# Altium integrated library Altera FPGA.IntLib: 467 symbols (part 3 of 3)
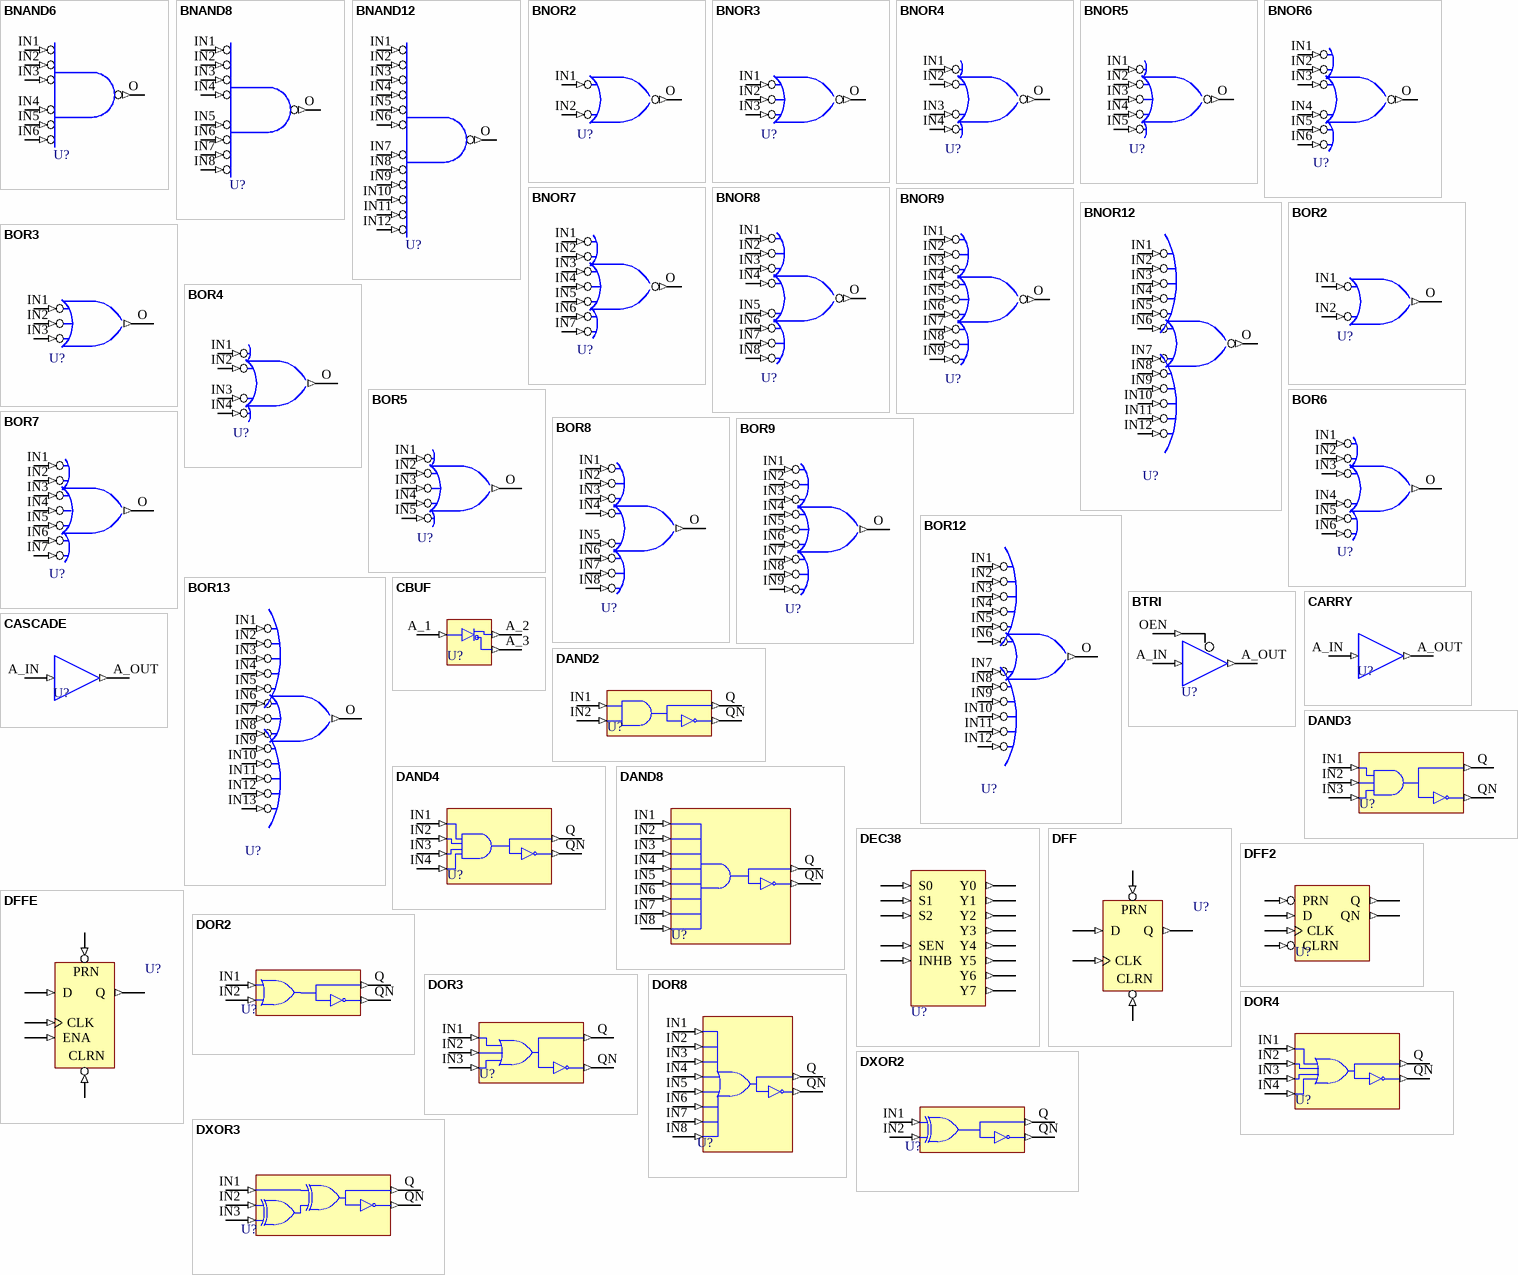
[diagram p14: symbols BNAND6 to DXOR3]

## DAND4
designator U?
4-Input AND Gate with additional inverted output.; FPGAVendor: Altera; Published: 17-Apr-2002; Publisher: Altium Limited
pins: IN1 (in), IN2 (in), IN3 (in), IN4 (in), Q (out), QN (out)

## DAND8
designator U?
8-Input AND Gate with additional inverted output.; FPGAVendor: Altera; Published: 17-Apr-2002; Publisher: Altium Limited
pins: IN1 (in), IN2 (in), IN3 (in), IN4 (in), IN5 (in), IN6 (in), IN7 (in), IN8 (in), Q (out), QN (out)

## DEC38
designator U?
3:8 DECODER; FPGAVendor: Altera; Published: 17-Apr-2002; Publisher: Altium Limited
pins: INHB (in), S0 (in), S1 (in), S2 (in), SEN (in), Y0 (out), Y1 (out), Y2 (out), Y3 (out), Y4 (out), Y5 (out), Y6 (out), Y7 (out)

## DFF
designator U?
D Flip-Flop; FPGAVendor: Altera; Published: 17-Apr-2002; Publisher: Altium Limited
pins: CLK (in), CLRN (in), D (in), PRN (in), Q (out)

## DFF2
designator U?
D Flip-Flop; FPGAVendor: Altera; Published: 17-Apr-2002; Publisher: Altium Limited
pins: CLK (in), CLRN (in), D (in), PRN (in), Q (out), QN (out)

## DFFE
designator U?
D Flip-Flop with Enable; FPGAVendor: Altera; Published: 17-Apr-2002; Publisher: Altium Limited
pins: CLK (in), CLRN (in), D (in), ENA (in), PRN (in), Q (out)

## DOR2
designator U?
2-Input OR Gate with additional inverted output.; FPGAVendor: Altera; Published: 17-Apr-2002; Publisher: Altium Limited
pins: IN1 (in), IN2 (in), Q (out), QN (out)

## DOR3
designator U?
3-Input OR Gate with additional inverted output.; FPGAVendor: Altera; Published: 17-Apr-2002; Publisher: Altium Limited
pins: IN1 (in), IN2 (in), IN3 (in), Q (out), QN (out)

## DOR4
designator U?
4-Input OR Gate with additional inverted output.; FPGAVendor: Altera; Published: 17-Apr-2002; Publisher: Altium Limited
pins: IN1 (in), IN2 (in), IN3 (in), IN4 (in), Q (out), QN (out)

## DOR8
designator U?
8-Input OR Gate with additional inverted output.; FPGAVendor: Altera; Published: 17-Apr-2002; Publisher: Altium Limited
pins: IN1 (in), IN2 (in), IN3 (in), IN4 (in), IN5 (in), IN6 (in), IN7 (in), IN8 (in), Q (out), QN (out)

## DXOR2
designator U?
2-Input XOR Gate with additional inverted output.; FPGAVendor: Altera; Published: 17-Apr-2002; Publisher: Altium Limited
pins: IN1 (in), IN2 (in), Q (out), QN (out)

## DXOR3
designator U?
3-Input XOR Gate with additional inverted output.; FPGAVendor: Altera; Published: 17-Apr-2002; Publisher: Altium Limited
pins: IN1 (in), IN2 (in), IN3 (in), Q (out), QN (out)

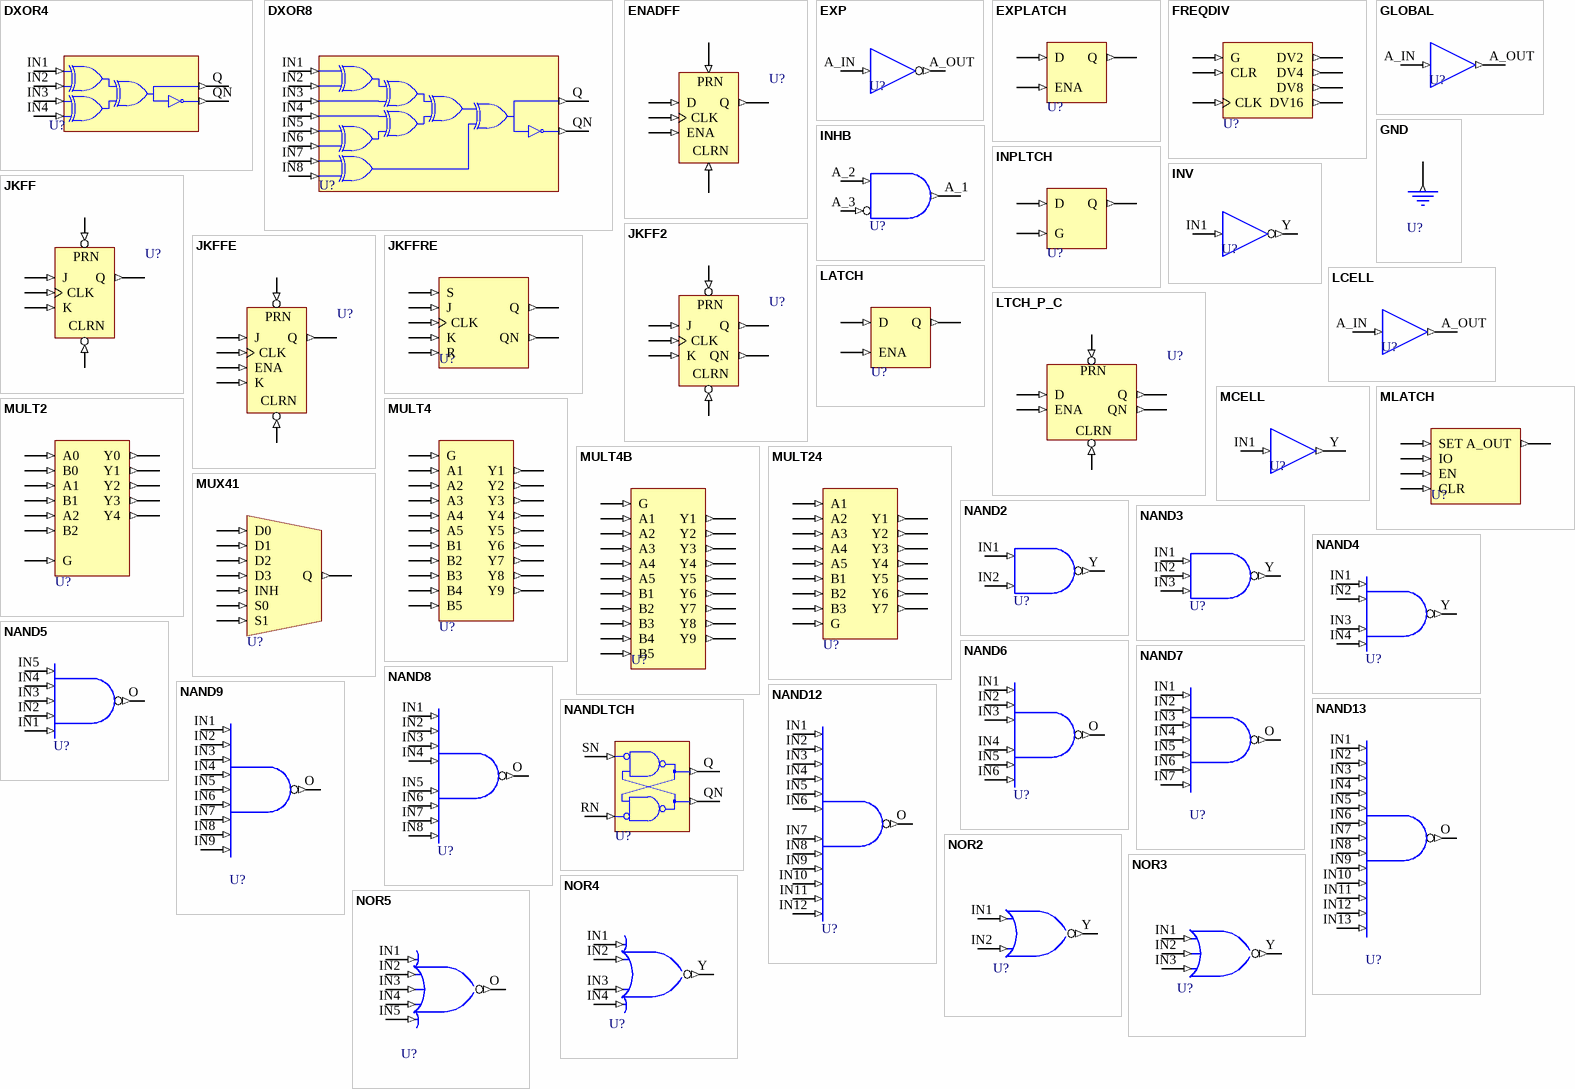
[diagram p10: symbols DXOR4 to NOR5]

## DXOR4
designator U?
4-Input XOR Gate with additional inverted output.; FPGAVendor: Altera; Published: 17-Apr-2002; Publisher: Altium Limited
pins: IN1 (in), IN2 (in), IN3 (in), IN4 (in), Q (out), QN (out)

## DXOR8
designator U?
8-Input XOR Gate with additional inverted output.; FPGAVendor: Altera; Published: 17-Apr-2002; Publisher: Altium Limited
pins: IN1 (in), IN2 (in), IN3 (in), IN4 (in), IN5 (in), IN6 (in), IN7 (in), IN8 (in), Q (out), QN (out)

## ENADFF
designator U?
Enabled D-Type Flip-Flop; FPGAVendor: Altera; Published: 17-Apr-2002; Publisher: Altium Limited
pins: CLK (in), CLRN (in), D (in), ENA (in), PRN (in), Q (out)

## EXP
designator U?
Inverter; FPGAVendor: Altera; Published: 17-Apr-2002; Publisher: Altium Limited
pins: A_IN (in), A_OUT (out)

## EXPLATCH
designator U?
Latch Implemented with Expanders; FPGAVendor: Altera; Published: 17-Apr-2002; Publisher: Altium Limited
pins: D (in), ENA (in), Q (out)

## FREQDIV
designator U?
Frequency Divider; FPGAVendor: Altera; Published: 17-Apr-2002; Publisher: Altium Limited
pins: CLK (in), CLR (in), DV2 (out), DV4 (out), DV8 (out), DV16 (out), G (in)

## GLOBAL
designator U?
Buffer; FPGAVendor: Altera; Published: 17-Apr-2002; Publisher: Altium Limited
pins: A_IN (in), A_OUT (out)

## GND
designator U?
Power Ground; FPGAVendor: Altera; Published: 17-Apr-2002; Publisher: Altium Limited
pins: Y (out)

## INHB
designator U?
Inhibit Gate; FPGAVendor: Altera; Published: 17-Apr-2002; Publisher: Altium Limited
pins: A_1 (out), A_2 (in), A_3 (in)

## INPLTCH
designator U?
Input Latch Implemented with Expanders; FPGAVendor: Altera; Published: 17-Apr-2002; Publisher: Altium Limited
pins: D (in), G (in), Q (out)

## INV
designator U?
Inverter; FPGAVendor: Altera; Published: 17-Apr-2002; Publisher: Altium Limited
pins: IN1 (in), Y (out)

## JKFF
designator U?
J-K Flip-Flop; FPGAVendor: Altera; Published: 17-Apr-2002; Publisher: Altium Limited
pins: CLK (in), CLRN (in), J (in), K (in), PRN (in), Q (out)

## JKFF2
designator U?
J-K Flip-Flop; FPGAVendor: Altera; Published: 17-Apr-2002; Publisher: Altium Limited
pins: CLK (in), CLRN (in), J (in), K (in), PRN (in), Q (out), QN (out)

## JKFFE
designator U?
J-K Flip-Flop with Enable; FPGAVendor: Altera; Published: 17-Apr-2002; Publisher: Altium Limited
pins: CLK (in), CLRN (in), ENA (in), J (in), K (in), PRN (in), Q (out)

## JKFFRE
designator U?
J-K Flip-Flop; FPGAVendor: Altera; Published: 17-Apr-2002; Publisher: Altium Limited
pins: CLK (in), J (in), K (in), Q (out), QN (out), R (in), S (in)

## LATCH
designator U?
Latch; FPGAVendor: Altera; Published: 17-Apr-2002; Publisher: Altium Limited
pins: D (in), ENA (in), Q (out)

## LCELL
designator U?
Buffer; FPGAVendor: Altera; Published: 17-Apr-2002; Publisher: Altium Limited
pins: A_IN (in), A_OUT (out)

## LTCH_P_C
designator U?
LATCH WITH ASYNC PRE/CLR; FPGAVendor: Altera; Published: 17-Apr-2002; Publisher: Altium Limited
pins: CLRN (in), D (in), ENA (in), PRN (in), Q (out), QN (out)

## MCELL
designator U?
Buffer; FPGAVendor: Altera; Published: 17-Apr-2002; Publisher: Altium Limited
pins: IN1 (in), Y (out)

## MLATCH
designator U?
MENTOR LATCH; FPGAVendor: Altera; Published: 17-Apr-2002; Publisher: Altium Limited
pins: A_OUT (out), CLR (in), EN (in), IO (in), SET (in)

## MULT2
designator U?
2-Bit Sign Magnitude Multiplier; FPGAVendor: Altera; Published: 17-Apr-2002; Publisher: Altium Limited
pins: A0 (in), A1 (in), A2 (in), B0 (in), B1 (in), B2 (in), G (in), Y0 (out), Y1 (out), Y2 (out), Y3 (out), Y4 (out)

## MULT4
designator U?
4-Bit Parallel Binary Multiplier; FPGAVendor: Altera; Published: 17-Apr-2002; Publisher: Altium Limited
pins: A1 (in), A2 (in), A3 (in), A4 (in), A5 (in), B1 (in), B2 (in), B3 (in), B4 (in), B5 (in), G (in), Y1 (out), Y2 (out), Y3 (out), Y4 (out), Y5 (out), Y6 (out), Y7 (out), Y8 (out), Y9 (out)

## MULT4B
designator U?
4-Bit Parallel Binary Multiplier; FPGAVendor: Altera; Published: 17-Apr-2002; Publisher: Altium Limited
pins: A1 (in), A2 (in), A3 (in), A4 (in), A5 (in), B1 (in), B2 (in), B3 (in), B4 (in), B5 (in), G (in), Y1 (out), Y2 (out), Y3 (out), Y4 (out), Y5 (out), Y6 (out), Y7 (out), Y8 (out), Y9 (out)

## MULT24
designator U?
2-Bit-by-4-Bit Parallel Binary Multiplier; FPGAVendor: Altera; Published: 17-Apr-2002; Publisher: Altium Limited
pins: A1 (in), A2 (in), A3 (in), A4 (in), A5 (in), B1 (in), B2 (in), B3 (in), G (in), Y1 (out), Y2 (out), Y3 (out), Y4 (out), Y5 (out), Y6 (out), Y7 (out)

## MUX41
designator U?
4:1 MULTIPLEXOR; FPGAVendor: Altera; Published: 17-Apr-2002; Publisher: Altium Limited
pins: D0 (in), D1 (in), D2 (in), D3 (in), INH (in), Q (out), S0 (in), S1 (in)

## NAND2
designator U?
2-Input NAND Gate; FPGAVendor: Altera; Published: 17-Apr-2002; Publisher: Altium Limited
pins: IN1 (in), IN2 (in), Y (out)

## NAND3
designator U?
3-Input NAND Gate; FPGAVendor: Altera; Published: 17-Apr-2002; Publisher: Altium Limited
pins: IN1 (in), IN2 (in), IN3 (in), Y (out)

## NAND4
designator U?
4-Input NAND Gate; FPGAVendor: Altera; Published: 17-Apr-2002; Publisher: Altium Limited
pins: IN1 (in), IN2 (in), IN3 (in), IN4 (in), Y (out)

## NAND5
designator U?
5-Input NAND Gate; FPGAVendor: Altera; Published: 17-Apr-2002; Publisher: Altium Limited
pins: IN1 (in), IN2 (in), IN3 (in), IN4 (in), IN5 (in), O (out)

## NAND6
designator U?
6-Input NAND Gate; FPGAVendor: Altera; Published: 17-Apr-2002; Publisher: Altium Limited
pins: IN1 (in), IN2 (in), IN3 (in), IN4 (in), IN5 (in), IN6 (in), O (out)

## NAND7
designator U?
7-Input NAND Gate; FPGAVendor: Altera; Published: 17-Apr-2002; Publisher: Altium Limited
pins: IN1 (in), IN2 (in), IN3 (in), IN4 (in), IN5 (in), IN6 (in), IN7 (in), O (out)

## NAND8
designator U?
8-Input NAND Gate; FPGAVendor: Altera; Published: 17-Apr-2002; Publisher: Altium Limited
pins: IN1 (in), IN2 (in), IN3 (in), IN4 (in), IN5 (in), IN6 (in), IN7 (in), IN8 (in), O (out)

## NAND9
designator U?
9-Input NAND Gate; FPGAVendor: Altera; Published: 17-Apr-2002; Publisher: Altium Limited
pins: IN1 (in), IN2 (in), IN3 (in), IN4 (in), IN5 (in), IN6 (in), IN7 (in), IN8 (in), IN9 (in), O (out)

## NAND12
designator U?
12-Input NAND Gate; FPGAVendor: Altera; Published: 17-Apr-2002; Publisher: Altium Limited
pins: IN1 (in), IN2 (in), IN3 (in), IN4 (in), IN5 (in), IN6 (in), IN7 (in), IN8 (in), IN9 (in), IN10 (in), IN11 (in), IN12 (in), O (out)

## NAND13
designator U?
13-Input NAND Gate; FPGAVendor: Altera; Published: 17-Apr-2002; Publisher: Altium Limited
pins: IN1 (in), IN2 (in), IN3 (in), IN4 (in), IN5 (in), IN6 (in), IN7 (in), IN8 (in), IN9 (in), IN10 (in), IN11 (in), IN12 (in), IN13 (in), O (out)

## NANDLTCH
designator U?
S-R NAND Latch Implemented with Expanders; FPGAVendor: Altera; Published: 17-Apr-2002; Publisher: Altium Limited
pins: Q (out), QN (out), RN (in), SN (in)

## NOR2
designator U?
2-Input NOR Gate; FPGAVendor: Altera; Published: 17-Apr-2002; Publisher: Altium Limited
pins: IN1 (in), IN2 (in), Y (out)

## NOR3
designator U?
3-Input NOR Gate; FPGAVendor: Altera; Published: 17-Apr-2002; Publisher: Altium Limited
pins: IN1 (in), IN2 (in), IN3 (in), Y (out)

## NOR4
designator U?
4-Input NOR Gate; FPGAVendor: Altera; Published: 17-Apr-2002; Publisher: Altium Limited
pins: IN1 (in), IN2 (in), IN3 (in), IN4 (in), Y (out)

## NOR5
designator U?
5-Input NOR Gate; FPGAVendor: Altera; Published: 17-Apr-2002; Publisher: Altium Limited
pins: IN1 (in), IN2 (in), IN3 (in), IN4 (in), IN5 (in), O (out)

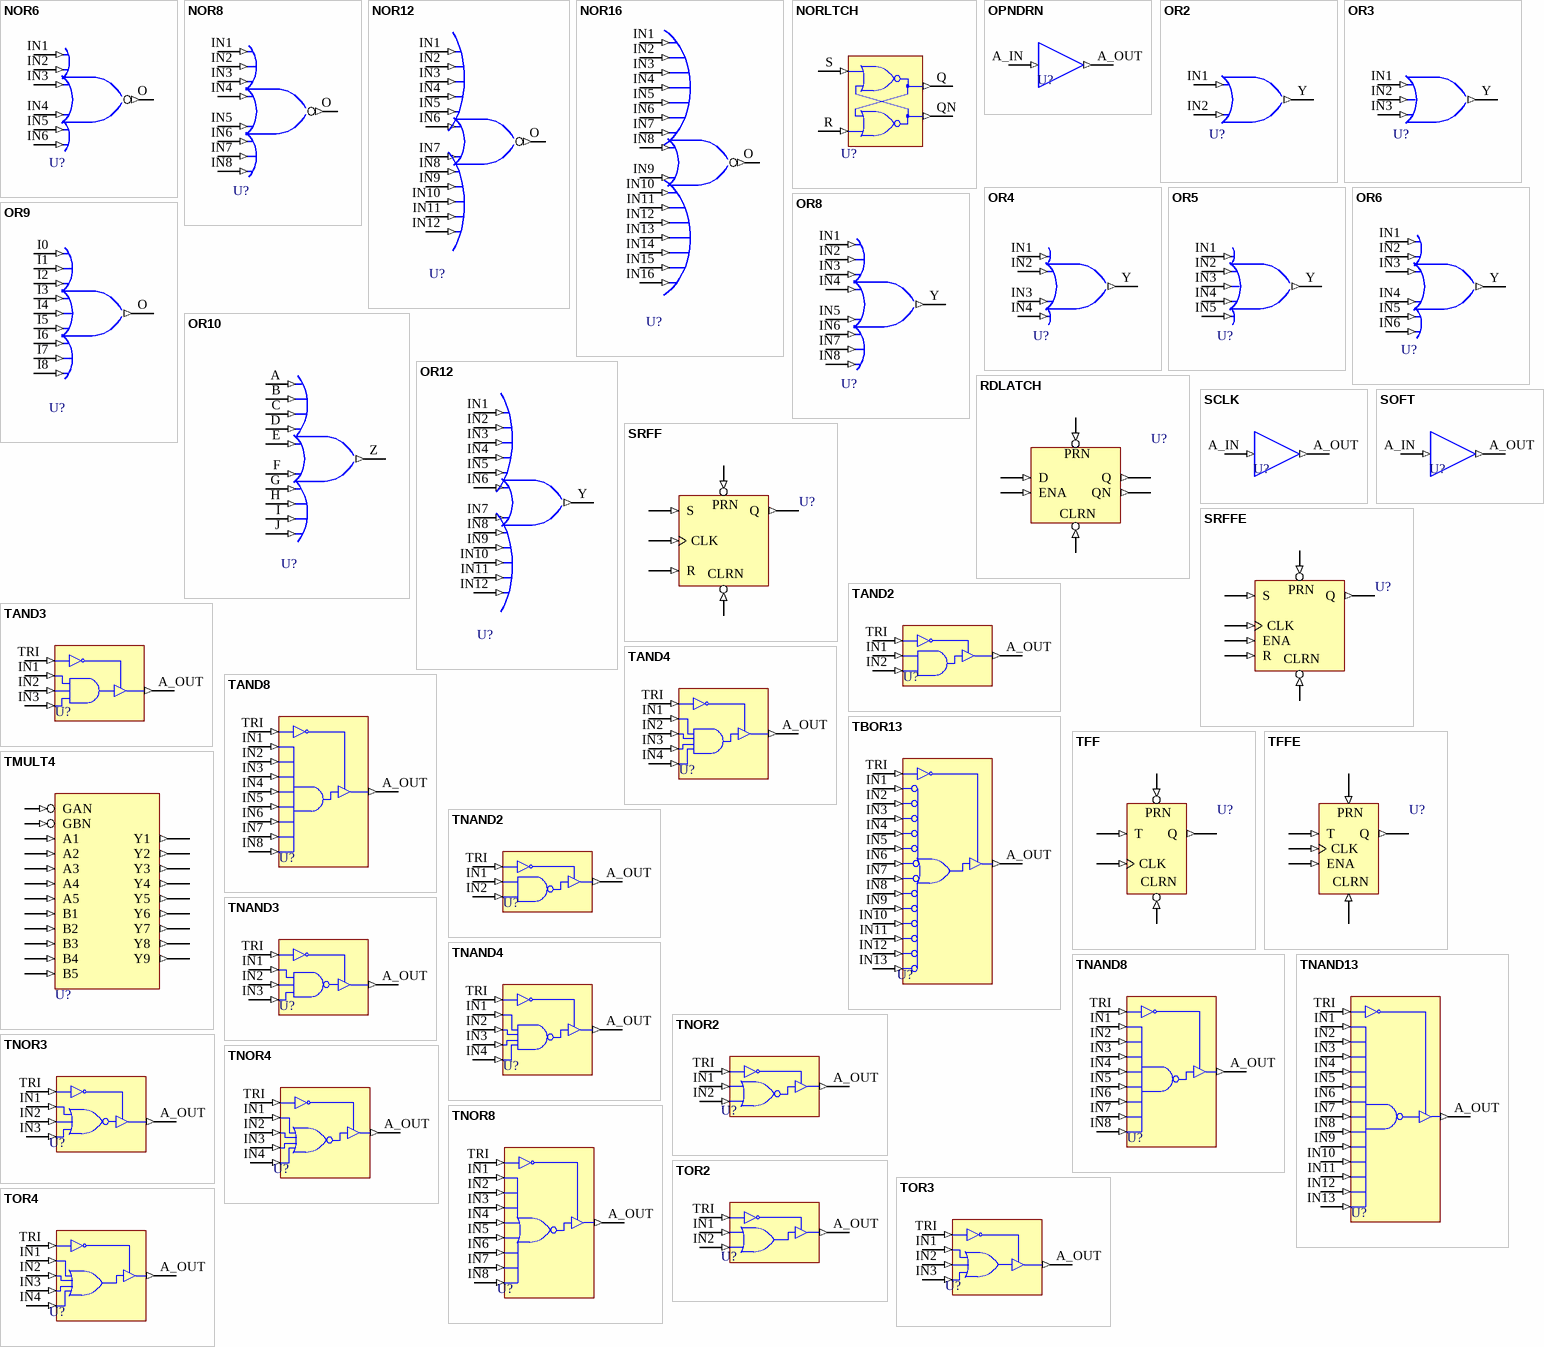
[diagram p11: symbols NOR6 to TOR4]

## NOR6
designator U?
6-Input NOR Gate; FPGAVendor: Altera; Published: 17-Apr-2002; Publisher: Altium Limited
pins: IN1 (in), IN2 (in), IN3 (in), IN4 (in), IN5 (in), IN6 (in), O (out)

## NOR8
designator U?
8-Input NOR Gate; FPGAVendor: Altera; Published: 17-Apr-2002; Publisher: Altium Limited
pins: IN1 (in), IN2 (in), IN3 (in), IN4 (in), IN5 (in), IN6 (in), IN7 (in), IN8 (in), O (out)

## NOR12
designator U?
12-Input NOR Gate; FPGAVendor: Altera; Published: 17-Apr-2002; Publisher: Altium Limited
pins: IN1 (in), IN2 (in), IN3 (in), IN4 (in), IN5 (in), IN6 (in), IN7 (in), IN8 (in), IN9 (in), IN10 (in), IN11 (in), IN12 (in), O (out)

## NOR16
designator U?
16-Input NOR Gate; FPGAVendor: Altera; Published: 17-Apr-2002; Publisher: Altium Limited
pins: IN1 (in), IN2 (in), IN3 (in), IN4 (in), IN5 (in), IN6 (in), IN7 (in), IN8 (in), IN9 (in), IN10 (in), IN11 (in), IN12 (in), IN13 (in), IN14 (in), IN15 (in), IN16 (in), O (out)

## NORLTCH
designator U?
S-R NOR Latch Implemented with Expanders; FPGAVendor: Altera; Published: 17-Apr-2002; Publisher: Altium Limited
pins: Q (out), QN (out), R (in), S (in)

## OPNDRN
designator U?
Buffer; FPGAVendor: Altera; Published: 17-Apr-2002; Publisher: Altium Limited
pins: A_IN (in), A_OUT (out)

## OR2
designator U?
2-Input OR Gate; FPGAVendor: Altera; Published: 17-Apr-2002; Publisher: Altium Limited
pins: IN1 (in), IN2 (in), Y (out)

## OR3
designator U?
3-Input OR Gate; FPGAVendor: Altera; Published: 17-Apr-2002; Publisher: Altium Limited
pins: IN1 (in), IN2 (in), IN3 (in), Y (out)

## OR4
designator U?
4-Input OR Gate; FPGAVendor: Altera; Published: 17-Apr-2002; Publisher: Altium Limited
pins: IN1 (in), IN2 (in), IN3 (in), IN4 (in), Y (out)

## OR5
designator U?
5-Input OR Gate; FPGAVendor: Altera; Published: 17-Apr-2002; Publisher: Altium Limited
pins: IN1 (in), IN2 (in), IN3 (in), IN4 (in), IN5 (in), Y (out)

## OR6
designator U?
6-Input OR Gate; FPGAVendor: Altera; Published: 17-Apr-2002; Publisher: Altium Limited
pins: IN1 (in), IN2 (in), IN3 (in), IN4 (in), IN5 (in), IN6 (in), Y (out)

## OR8
designator U?
8-Input OR Gate; FPGAVendor: Altera; Published: 17-Apr-2002; Publisher: Altium Limited
pins: IN1 (in), IN2 (in), IN3 (in), IN4 (in), IN5 (in), IN6 (in), IN7 (in), IN8 (in), Y (out)

## OR9
designator U?
9-Input OR Gate; FPGAVendor: Altera; Published: 17-Apr-2002; Publisher: Altium Limited
pins: I0 (in), I1 (in), I2 (in), I3 (in), I4 (in), I5 (in), I6 (in), I7 (in), I8 (in), O (out)

## OR10
designator U?
10-Input OR Gate; FPGAVendor: Altera; Published: 17-Apr-2002; Publisher: Altium Limited
pins: A (in), B (in), C (in), D (in), E (in), F (in), G (in), H (in), I (in), J (in), Z (out)

## OR12
designator U?
12-Input OR Gate; FPGAVendor: Altera; Published: 17-Apr-2002; Publisher: Altium Limited
pins: IN1 (in), IN2 (in), IN3 (in), IN4 (in), IN5 (in), IN6 (in), IN7 (in), IN8 (in), IN9 (in), IN10 (in), IN11 (in), IN12 (in), Y (out)

## RDLATCH
designator U?
DAISY LATCH; FPGAVendor: Altera; Published: 17-Apr-2002; Publisher: Altium Limited
pins: CLRN (in), D (in), ENA (in), PRN (in), Q (out), QN (out)

## SCLK
designator U?
Buffer; FPGAVendor: Altera; Published: 17-Apr-2002; Publisher: Altium Limited
pins: A_IN (in), A_OUT (out)

## SOFT
designator U?
Buffer; FPGAVendor: Altera; Published: 17-Apr-2002; Publisher: Altium Limited
pins: A_IN (in), A_OUT (out)

## SRFF
designator U?
S-R (Set-Reset) Flip-Flop; FPGAVendor: Altera; Published: 17-Apr-2002; Publisher: Altium Limited
pins: CLK (in), CLRN (in), PRN (in), Q (out), R (in), S (in)

## SRFFE
designator U?
S-R (Set-Reset) Flip-Flop with Enable; FPGAVendor: Altera; Published: 17-Apr-2002; Publisher: Altium Limited
pins: CLK (in), CLRN (in), ENA (in), PRN (in), Q (out), R (in), S (in)

## TAND2
designator U?
2-Input AND Gate with Tri-State output.; FPGAVendor: Altera; Published: 17-Apr-2002; Publisher: Altium Limited
pins: A_OUT (out), IN1 (in), IN2 (in), TRI (in)

## TAND3
designator U?
3-Input AND Gate with Tri-State output.; FPGAVendor: Altera; Published: 17-Apr-2002; Publisher: Altium Limited
pins: A_OUT (out), IN1 (in), IN2 (in), IN3 (in), TRI (in)

## TAND4
designator U?
4-Input AND Gate with Tri-State output.; FPGAVendor: Altera; Published: 17-Apr-2002; Publisher: Altium Limited
pins: A_OUT (out), IN1 (in), IN2 (in), IN3 (in), IN4 (in), TRI (in)

## TAND8
designator U?
8-Input AND Gate with Tri-State output.; FPGAVendor: Altera; Published: 17-Apr-2002; Publisher: Altium Limited
pins: A_OUT (out), IN1 (in), IN2 (in), IN3 (in), IN4 (in), IN5 (in), IN6 (in), IN7 (in), IN8 (in), TRI (in)

## TBOR13
designator U?
13-Input BOR Gate with Tri-State output.; FPGAVendor: Altera; Published: 17-Apr-2002; Publisher: Altium Limited
pins: A_OUT (out), IN1 (in), IN2 (in), IN3 (in), IN4 (in), IN5 (in), IN6 (in), IN7 (in), IN8 (in), IN9 (in), IN10 (in), IN11 (in), IN12 (in), IN13 (in), TRI (in)

## TFF
designator U?
T (Toggle) Flip-Flop; FPGAVendor: Altera; Published: 17-Apr-2002; Publisher: Altium Limited
pins: CLK (in), CLRN (in), PRN (in), Q (out), T (in)

## TFFE
designator U?
T (Toggle) Flip-Flop with Enable; FPGAVendor: Altera; Published: 17-Apr-2002; Publisher: Altium Limited
pins: CLK (in), CLRN (in), ENA (in), PRN (in), Q (out), T (in)

## TMULT4
designator U?
4-Bit-by-4-Bit Parallel Binary Multiplier; FPGAVendor: Altera; Note: The truth table shows that this component should perform unsigned multiplication. However, during simulation the component performs signed multiplication.; Published: 17-Apr-2002; Publisher: Altium Limited
pins: A1 (in), A2 (in), A3 (in), A4 (in), A5 (in), B1 (in), B2 (in), B3 (in), B4 (in), B5 (in), GAN (in), GBN (in), Y1 (out), Y2 (out), Y3 (out), Y4 (out), Y5 (out), Y6 (out), Y7 (out), Y8 (out), Y9 (out)

## TNAND2
designator U?
2-Input NAND Gate with Tri-State output.; FPGAVendor: Altera; Published: 17-Apr-2002; Publisher: Altium Limited
pins: A_OUT (out), IN1 (in), IN2 (in), TRI (in)

## TNAND3
designator U?
3-Input NAND Gate with Tri-State output.; FPGAVendor: Altera; Published: 17-Apr-2002; Publisher: Altium Limited
pins: A_OUT (out), IN1 (in), IN2 (in), IN3 (in), TRI (in)

## TNAND4
designator U?
4-Input NAND Gate with Tri-State output.; FPGAVendor: Altera; Published: 17-Apr-2002; Publisher: Altium Limited
pins: A_OUT (out), IN1 (in), IN2 (in), IN3 (in), IN4 (in), TRI (in)

## TNAND8
designator U?
8-Input NAND Gate with Tri-State output.; FPGAVendor: Altera; Published: 17-Apr-2002; Publisher: Altium Limited
pins: A_OUT (out), IN1 (in), IN2 (in), IN3 (in), IN4 (in), IN5 (in), IN6 (in), IN7 (in), IN8 (in), TRI (in)

## TNAND13
designator U?
13-Input NAND Gate with Tri-State output.; FPGAVendor: Altera; Published: 17-Apr-2002; Publisher: Altium Limited
pins: A_OUT (out), IN1 (in), IN2 (in), IN3 (in), IN4 (in), IN5 (in), IN6 (in), IN7 (in), IN8 (in), IN9 (in), IN10 (in), IN11 (in), IN12 (in), IN13 (in), TRI (in)

## TNOR2
designator U?
2-Input NOR Gate with Tri-State output.; FPGAVendor: Altera; Published: 17-Apr-2002; Publisher: Altium Limited
pins: A_OUT (out), IN1 (in), IN2 (in), TRI (in)

## TNOR3
designator U?
3-Input NOR Gate with Tri-State output.; FPGAVendor: Altera; Published: 17-Apr-2002; Publisher: Altium Limited
pins: A_OUT (out), IN1 (in), IN2 (in), IN3 (in), TRI (in)

## TNOR4
designator U?
4-Input NOR Gate with Tri-State output.; FPGAVendor: Altera; Published: 17-Apr-2002; Publisher: Altium Limited
pins: A_OUT (out), IN1 (in), IN2 (in), IN3 (in), IN4 (in), TRI (in)

## TNOR8
designator U?
8-Input NOR Gate with Tri-State output.; FPGAVendor: Altera; Published: 17-Apr-2002; Publisher: Altium Limited
pins: A_OUT (out), IN1 (in), IN2 (in), IN3 (in), IN4 (in), IN5 (in), IN6 (in), IN7 (in), IN8 (in), TRI (in)

## TOR2
designator U?
2-Input OR Gate with Tri-State output.; FPGAVendor: Altera; Published: 17-Apr-2002; Publisher: Altium Limited
pins: A_OUT (out), IN1 (in), IN2 (in), TRI (in)

## TOR3
designator U?
3-Input OR Gate with Tri-State output.; FPGAVendor: Altera; Published: 17-Apr-2002; Publisher: Altium Limited
pins: A_OUT (out), IN1 (in), IN2 (in), IN3 (in), TRI (in)

## TOR4
designator U?
4-Input OR Gate with Tri-State output.; FPGAVendor: Altera; Published: 17-Apr-2002; Publisher: Altium Limited
pins: A_OUT (out), IN1 (in), IN2 (in), IN3 (in), IN4 (in), TRI (in)

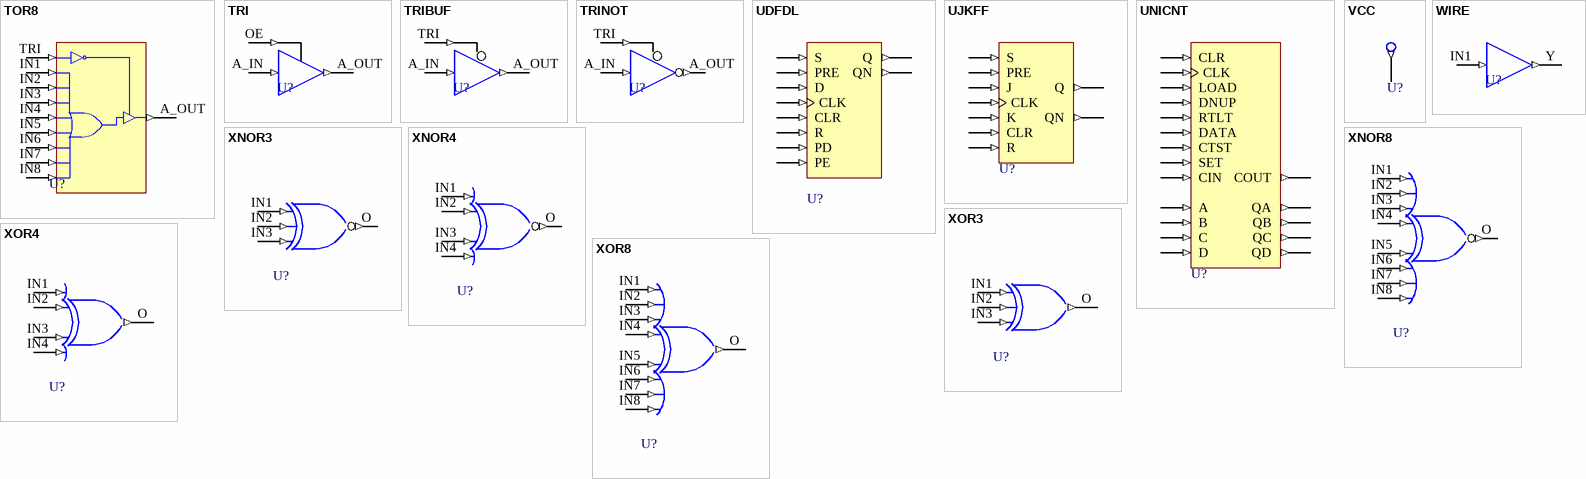
[diagram p12: symbols TOR8 to XOR8]

## TOR8
designator U?
8-Input OR Gate with Tri-State output.; FPGAVendor: Altera; Published: 17-Apr-2002; Publisher: Altium Limited
pins: A_OUT (out), IN1 (in), IN2 (in), IN3 (in), IN4 (in), IN5 (in), IN6 (in), IN7 (in), IN8 (in), TRI (in)

## TRI
designator U?
Three-State Buffer; FPGAVendor: Altera; Published: 17-Apr-2002; Publisher: Altium Limited
pins: A_IN (in), A_OUT (out), OE (in)

## TRIBUF
designator U?
Buffer with Tri-State output.; FPGAVendor: Altera; Published: 17-Apr-2002; Publisher: Altium Limited
pins: A_IN (in), A_OUT (out), TRI (in)

## TRINOT
designator U?
Inverter with Tri-State output.; FPGAVendor: Altera; Published: 17-Apr-2002; Publisher: Altium Limited
pins: A_IN (in), A_OUT (out), TRI (in)

## UDFDL
designator U?
UNIVERSAL DFF OR LATCH; FPGAVendor: Altera; Published: 17-Apr-2002; Publisher: Altium Limited
pins: CLK (in), CLR (in), D (in), PD (in), PE (in), PRE (in), Q (out), QN (out), R (in), S (in)

## UJKFF
designator U?
JKFF WITH PRIORITY PRN; FPGAVendor: Altera; Published: 17-Apr-2002; Publisher: Altium Limited
pins: CLK (in), CLR (in), J (in), K (in), PRE (in), Q (out), QN (out), R (in), S (in)

## UNICNT
designator U?
Universal 4-Bit Up/Down Counter Left/Right Shift Register with Asynchronous Set and Load, Clear, and Cascade; FPGAVendor: Altera; Published: 17-Apr-2002; Publisher: Altium Limited
pins: A (in), B (in), C (in), CIN (in), CLK (in), CLR (in), COUT (out), CTST (in), D (in), DATA (in), DNUP (in), LOAD (in), QA (out), QB (out), QC (out), QD (out), RTLT (in), SET (in)

## VCC
designator U?
Power Pin; FPGAVendor: Altera; Published: 17-Apr-2002; Publisher: Altium Limited
pins: Y (out)

## WIRE
designator U?
Buffer; FPGAVendor: Altera; Published: 17-Apr-2002; Publisher: Altium Limited
pins: IN1 (in), Y (out)

## XNOR3
designator U?
3-Input XNOR Gate; FPGAVendor: Altera; Published: 17-Apr-2002; Publisher: Altium Limited
pins: IN1 (in), IN2 (in), IN3 (in), O (out)

## XNOR4
designator U?
4-Input XNOR Gate; FPGAVendor: Altera; Published: 17-Apr-2002; Publisher: Altium Limited
pins: IN1 (in), IN2 (in), IN3 (in), IN4 (in), O (out)

## XNOR8
designator U?
8-Input XNOR Gate; FPGAVendor: Altera; Published: 17-Apr-2002; Publisher: Altium Limited
pins: IN1 (in), IN2 (in), IN3 (in), IN4 (in), IN5 (in), IN6 (in), IN7 (in), IN8 (in), O (out)

## XOR3
designator U?
3-Input XOR Gate; FPGAVendor: Altera; Published: 17-Apr-2002; Publisher: Altium Limited
pins: IN1 (in), IN2 (in), IN3 (in), O (out)

## XOR4
designator U?
4-Input XOR Gate; FPGAVendor: Altera; Published: 17-Apr-2002; Publisher: Altium Limited
pins: IN1 (in), IN2 (in), IN3 (in), IN4 (in), O (out)

## XOR8
designator U?
8-Input XOR Gate; FPGAVendor: Altera; Published: 17-Apr-2002; Publisher: Altium Limited
pins: IN1 (in), IN2 (in), IN3 (in), IN4 (in), IN5 (in), IN6 (in), IN7 (in), IN8 (in), O (out)